# EAGLE library part PE4259 (library aarf)
PE4259 SPDT High Power UltraCMOS 10 MHz 3.0 GHz RF Switch Features - High ESD tolerance of 2 kV HBM - Single-pin or complementary CMOS logic control inputs - Low insertion loss: * 0.35 dB @ 1000 MHz * 0.5 dB @ 2000 MHz - Isolation of 30 dB @ 1000 MHz - Typical input 1 dB compression point of +33.5 dBm - 1.8V minimum power supply voltage - Ultra-small SC-70 package
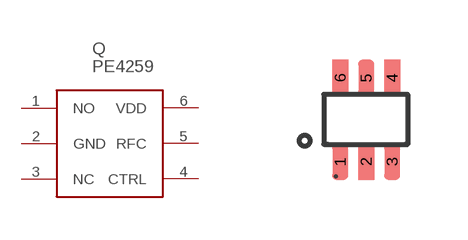
[diagram p0: symbol with the pads of SC-70; footprint SC-70]

Designator prefix Q

## PE4259  [SC-70]
1  NO
2  GND
3  NC
4  CTRL  in
5  RFC
6  VDD  pwr

## Footprint SC-70 (pad centres in mm)
6-Lead SC-70
smd 0.4 x 0.9: 1 -0.635,-1.035; 2 0.015,-1.035; 3 0.665,-1.035; 4 0.665,1.065; 5 0.015,1.065; 6 -0.635,1.065